# EAGLE library part IC_DRV8833 (library brickster)
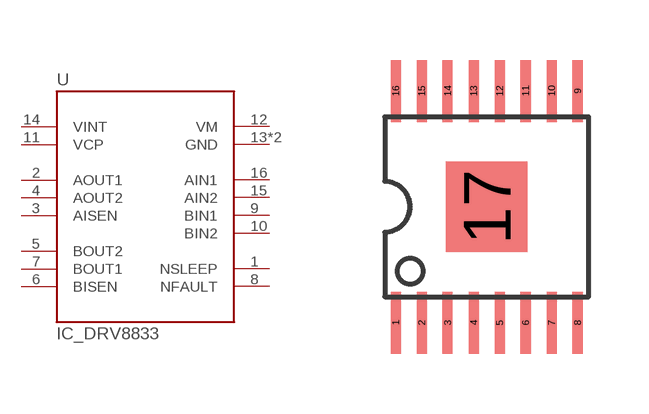
[diagram p4: symbol with the pads of PWP_R-PDSO-G16; footprint PWP_R-PDSO-G16]

Designator prefix U

## IC_DRV8833  [PWP_R-PDSO-G16]
1  NSLEEP
2  AOUT1
3  AISEN
4  AOUT2
5  BOUT2
6  BISEN
7  BOUT1
8  NFAULT
9  BIN1
10  BIN2
11  VCP
12  VM
13  GND
14  VINT
15  AIN2
16  AIN1
17  GND

## Footprint PWP_R-PDSO-G16 (pad centres in mm)
smd 0.25 x 1.55: 1 -2.275,-2.9; 2 -1.625,-2.9; 3 -0.975,-2.9; 4 -0.325,-2.9; 5 0.325,-2.9; 6 0.975,-2.9; 7 1.625,-2.9; 8 2.275,-2.9; 9 2.275,2.9; 10 1.625,2.9; 11 0.975,2.9; 12 0.325,2.9; 13 -0.325,2.9; 14 -0.975,2.9; 15 -1.625,2.9; 16 -2.275,2.9
smd 2.03 x 2.26: 17 0,0